# EAGLE library part MAX1771ESA (library TimeExpander)
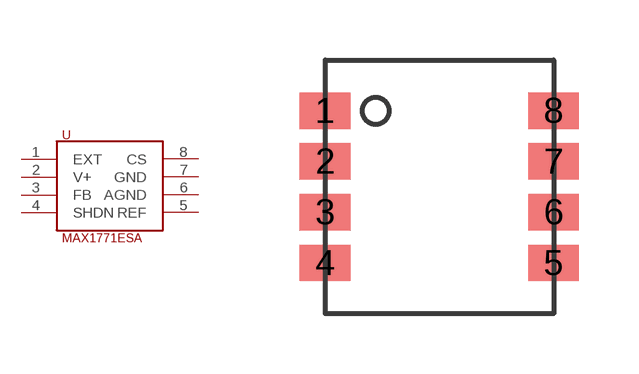
[diagram p15: symbol with the pads of SOIC-8; footprint SOIC-8]

Designator prefix -

## MAX1771ESA  [SOIC-8]
1  EXT
2  V+
3  FB
4  SHDN
5  REF
6  AGND
7  GND
8  CS

## Footprint SOIC-8 (pad centres in mm)
smd 1.27 x 0.91: 1 0,3.81; 2 0,2.54; 3 0,1.27; 4 0,0; 5 5.715,0; 6 5.715,1.27; 7 5.715,2.54; 8 5.715,3.81